# EAGLE library part HD44780LCD (library MTS-OTR_Custom)
HD44780 LCD Standard character type LCDs, available in sizes from 8x1 to 40x4!
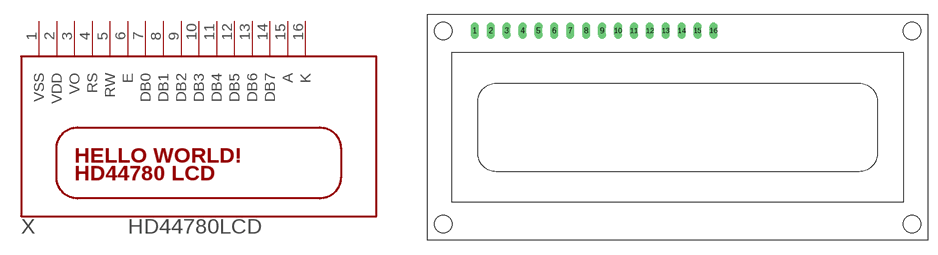
[diagram p13: symbol with the pads of LCD1602; footprint LCD1602]

Designator prefix X

## HD44780LCD-1602  [LCD1602]
1  VSS  sup
2  VDD  sup
3  VO  in
4  RS  in
5  RW  in
6  E  in
7  DB0
8  DB1
9  DB2
10  DB3
11  DB4
12  DB5
13  DB6
14  DB7
15  A  in
16  K  in

## Footprint LCD1602 (pad centres in mm)
drill 0.8 long: 1 7.62,33.46; 2 10.16,33.46; 3 12.7,33.46; 4 15.24,33.46; 5 17.78,33.46; 6 20.32,33.46; 7 22.86,33.46; 8 25.4,33.46; 9 27.94,33.46; 10 30.48,33.46; 11 33.02,33.46; 12 35.56,33.46; 13 38.1,33.46; 14 40.64,33.46; 15 43.18,33.46; 16 45.72,33.46
hole 2.8 at 2.54,2.54
hole 2.8 at 2.54,33.46
hole 2.8 at 77.46,33.46
hole 2.8 at 77.46,2.54